# EAGLE library part SSM2210 (library transistors)
SSM2210: Matched NPN transistor pair (Analog Devices) 40V Uce, 20mA Ic, 200-600 hfe 200µV offset, 2nV/rt(Hz) noise, 200MHz GBW Complementary type SSM2220
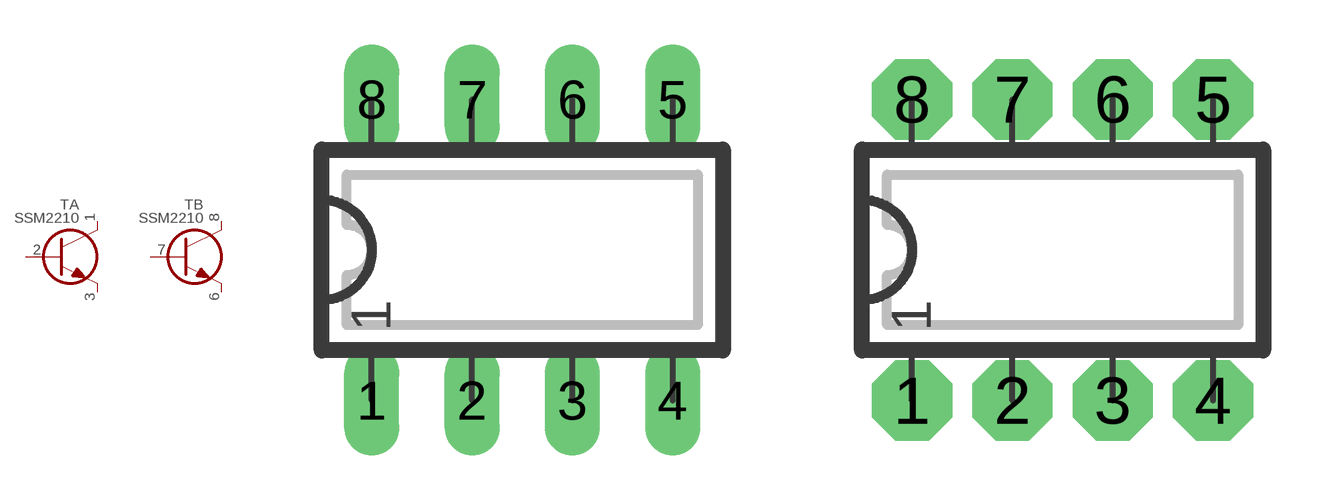
[diagram p4: symbol with the pads of DIP08L; footprints DIP08L, DIP08N]

Designator prefix T; gates A=TNPN B=TNPN

## SSM2210  [DIP08L]
1  A:C
2  A:B
3  A:E
6  B:E
7  B:B
8  B:C

## SSM2210L  [DIP08L]
Pads as for DIP08L

## SSM2210N  [DIP08N]
Pads as for DIP08L

## SSM2210R  [DIP08R]
Pads as for DIP08L

## SSM2210S  [SO08]
Pads as for DIP08L

## Footprint DIP08L (pad centres in mm)
DIP-8, long pads Standard IC package, 8 pins
drill 0.813 pad 1.397 long: 1 0,0; 2 2.54,0; 3 5.08,0; 4 7.62,0; 5 7.62,7.62; 6 5.08,7.62; 7 2.54,7.62; 8 0,7.62

## Footprint DIP08N (pad centres in mm)
DIP-8 Standard IC package, 8 pins
drill 0.813 pad 2.032 octagon: 1 0,0; 2 2.54,0; 3 5.08,0; 4 7.62,0; 5 7.62,7.62; 6 5.08,7.62; 7 2.54,7.62; 8 0,7.62

## Footprint DIP08R (pad centres in mm)
DIP-8, reduced pads Standard IC package, 8 pins
drill 0.813 pad 1.397 square: 1 0,0; 2 2.54,0; 3 5.08,0; 4 7.62,0; 5 7.62,7.62; 6 5.08,7.62; 7 2.54,7.62; 8 0,7.62

## Footprint SO08 (pad centres in mm)
SO-8, SMD SOIC IC package, 8 pins
smd 0.635 x 1.778: 1 -1.905,-2.857; 2 -0.635,-2.857; 3 0.635,-2.857; 4 1.905,-2.857; 5 1.905,2.857; 6 0.635,2.857; 7 -0.635,2.857; 8 -1.905,2.857